# EAGLE library part ESP32-C3FH4 (library ESP32-C3FH4)
Check availability <https://pricing.snapeda.com/parts/ESP32-C3FH4/Espressif%20Systems/view-part?ref=eda>
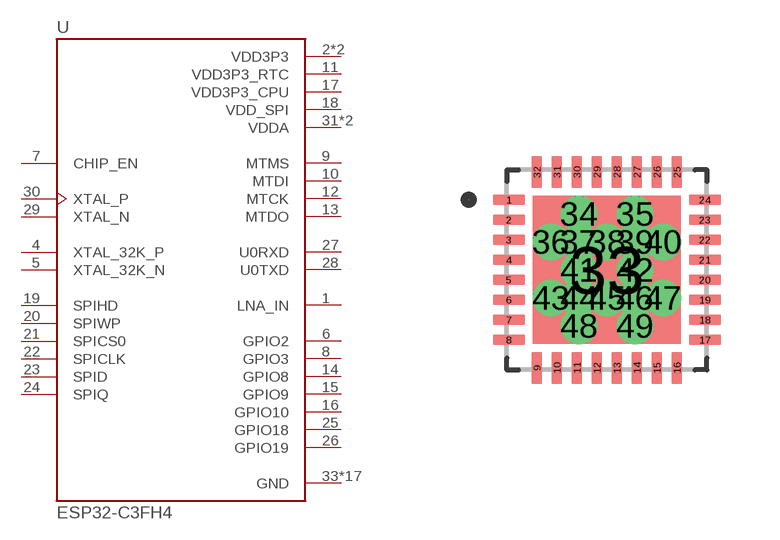
[diagram p0: symbol with the pads of QFN50P500X500X90-33N; footprint QFN50P500X500X90-33N]

Designator prefix U

## ESP32-C3FH4 (AVAILABILITY: In Stock; DESCRIPTION: Bluetooth, WiFi 802.11b/g/n, Bluetooth v5.0 Transceiver Module 2.402GHz ~ 2.48GHz Antenna Not Included Surface Mount; MF: Espressif Systems; MP: ESP32-C3FH4; PACKAGE: VFQFN-32 Espressif Systems; PRICE: None; PURCHASE-URL: https://pricing.snapeda.com/search/part/ESP32-C3FH4/?ref=eda)  [QFN50P500X500X90-33N]
1  LNA_IN
2  VDD3P3  pwr
3  VDD3P3  pwr
4  XTAL_32K_P
5  XTAL_32K_N
6  GPIO2
7  CHIP_EN  in
8  GPIO3
9  MTMS
10  MTDI
11  VDD3P3_RTC  pwr
12  MTCK
13  MTDO
14  GPIO8
15  GPIO9
16  GPIO10
17  VDD3P3_CPU  pwr
18  VDD_SPI  pwr
19  SPIHD
20  SPIWP
21  SPICS0
22  SPICLK
23  SPID
24  SPIQ
25  GPIO18
26  GPIO19
27  U0RXD
28  U0TXD
29  XTAL_N  out
30  XTAL_P  in
31  VDDA  pwr
32  VDDA  pwr
33  GND  pwr
34  GND  pwr
35  GND  pwr
36  GND  pwr
37  GND  pwr
38  GND  pwr
39  GND  pwr
40  GND  pwr
41  GND  pwr
42  GND  pwr
43  GND  pwr
44  GND  pwr
45  GND  pwr
46  GND  pwr
47  GND  pwr
48  GND  pwr
49  GND  pwr

## Footprint QFN50P500X500X90-33N (pad centres in mm)
smd 0.81 x 0.27: 1 -2.45,1.75; 2 -2.45,1.25; 3 -2.45,0.75; 4 -2.45,0.25; 5 -2.45,-0.25; 6 -2.45,-0.75; 7 -2.45,-1.25; 8 -2.45,-1.75; 17 2.45,-1.75; 18 2.45,-1.25; 19 2.45,-0.75; 20 2.45,-0.25; 21 2.45,0.25; 22 2.45,0.75; 23 2.45,1.25; 24 2.45,1.75
smd 0.27 x 0.81: 9 -1.75,-2.45; 10 -1.25,-2.45; 11 -0.75,-2.45; 12 -0.25,-2.45; 13 0.25,-2.45; 14 0.75,-2.45; 15 1.25,-2.45; 16 1.75,-2.45; 25 1.75,2.45; 26 1.25,2.45; 27 0.75,2.45; 28 0.25,2.45; 29 -0.25,2.45; 30 -0.75,2.45; 31 -1.25,2.45; 32 -1.75,2.45
smd 3.7 x 3.7: 33 0,0
drill 0.4 pad 0.5: 34 -0.7,1.4; 35 0.7,1.4; 36 -1.4,0.7; 37 -0.7,0.7; 38 0,0.7; 39 0.7,0.7; 40 1.4,0.7; 41 -0.7,0; 42 0.7,0; 43 -1.4,-0.7; 44 -0.7,-0.7; 45 0,-0.7; 46 0.7,-0.7; 47 1.4,-0.7; 48 -0.7,-1.4; 49 0.7,-1.4